# Altium schematic symbol library v-reg.SCHLIB: 65 symbols
Pins are listed as number, name and electrical type; pins without a type are passive.

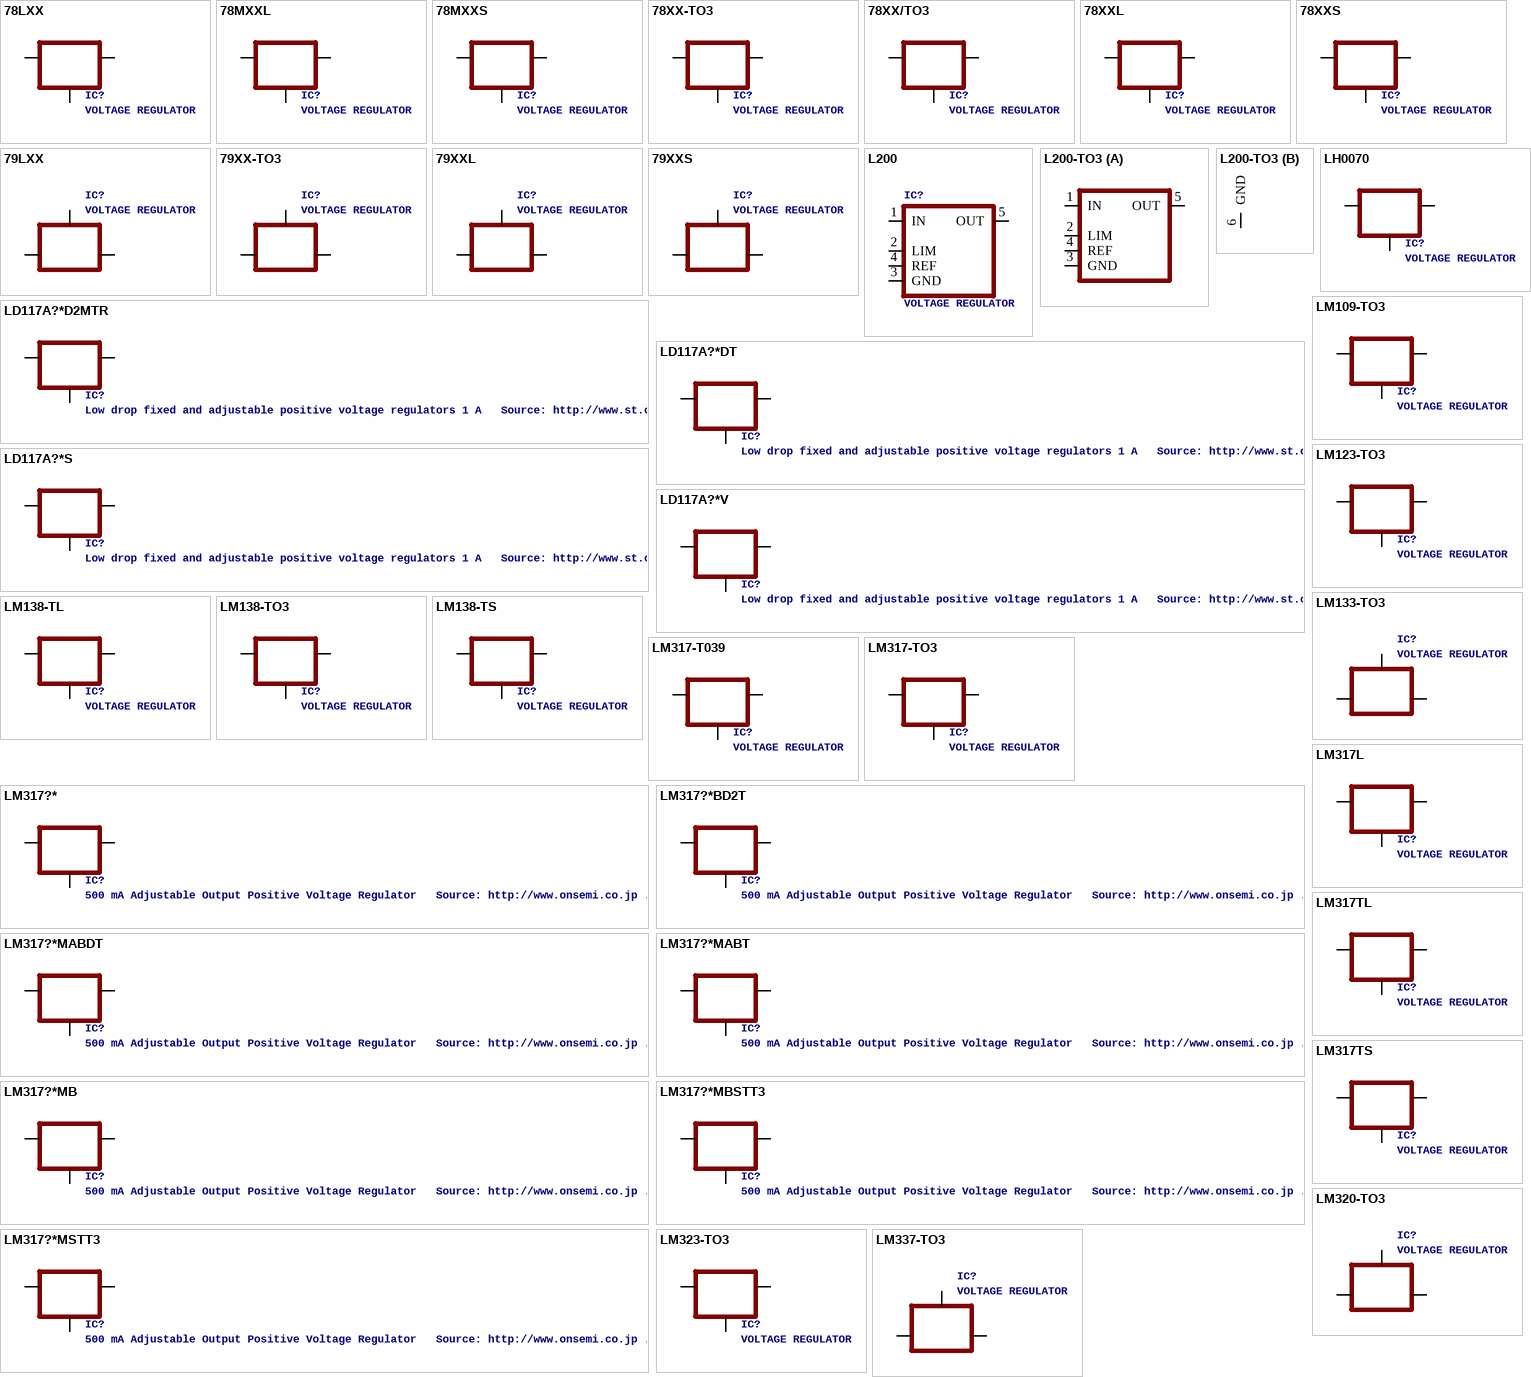
[diagram p0: symbols 78LXX to LM337-TO3]

## 78LXX
designator IC?, comment VOLTAGE REGULATOR
footprint 78LXX
pins: GND, IN, OUT

## 78MXXL
designator IC?, comment VOLTAGE REGULATOR
footprint 78MXXL
pins: GND, IN, OUT

## 78MXXS
designator IC?, comment VOLTAGE REGULATOR
footprint 78MXXS
pins: GND, IN, OUT

## 78XX-TO3
designator IC?, comment VOLTAGE REGULATOR
footprint TO3-78
pins: 1 OUT, 2 IN, 3 GND

## 78XX/TO3
designator IC?, comment VOLTAGE REGULATOR
footprint TO3/78
pins: 1 OUT, 2 IN, 3 GND

## 78XXL
designator IC?, comment VOLTAGE REGULATOR
footprint 78XXL
pins: GND, IN, OUT

## 78XXS
designator IC?, comment VOLTAGE REGULATOR
footprint 78XXS
pins: GND, IN, OUT

## 79LXX
designator IC?, comment VOLTAGE REGULATOR
footprint 79LXX
pins: GND, IN, OUT

## 79XX-TO3
designator IC?, comment VOLTAGE REGULATOR
footprint TO3-79
pins: 1 OUT, 2 GND, 3 IN

## 79XXL
designator IC?, comment VOLTAGE REGULATOR
footprint 79XXL
pins: GND, IN, OUT

## 79XXS
designator IC?, comment VOLTAGE REGULATOR
footprint 79XXS
pins: GND, IN, OUT

## L200
designator IC?, comment VOLTAGE REGULATOR
footprint L200S
pins: 1 IN, 2 LIM, 3 GND, 4 REF, 5 OUT

## L200-TO3
designator IC?, comment VOLTAGE REGULATOR  (value not drawn)
footprint L200TO3
part A pins: 1 IN, 2 LIM, 3 GND, 4 REF, 5 OUT
part B pins: 6 GND (power)

## LD117A?*D2MTR
designator IC?, comment Low drop fixed and adjustable positive voltage regulators 1 A   Source: http://www.st.com/stonline/products/literature/ds/7194/ld1117axx.pdf
footprint D2PACK
pins: 1 ADJ, 2 OUT, 3 IN

## LD117A?*DT
designator IC?, comment Low drop fixed and adjustable positive voltage regulators 1 A   Source: http://www.st.com/stonline/products/literature/ds/7194/ld1117axx.pdf
footprint DPACK
pins: 1 ADJ, 3 IN, 4 OUT

## LD117A?*S
designator IC?, comment Low drop fixed and adjustable positive voltage regulators 1 A   Source: http://www.st.com/stonline/products/literature/ds/7194/ld1117axx.pdf
footprint SOT223
pins: 1 ADJ, 3 IN, 4 OUT

## LD117A?*V
designator IC?, comment Low drop fixed and adjustable positive voltage regulators 1 A   Source: http://www.st.com/stonline/products/literature/ds/7194/ld1117axx.pdf
footprint TO220L1
pins: 1 ADJ, 2 OUT, 3 IN

## LH0070
designator IC?, comment VOLTAGE REGULATOR
footprint LH0070
pins: GND, IN, OUT

## LM109-TO3
designator IC?, comment VOLTAGE REGULATOR
footprint TO3-K02
pins: 1 OUT, 2 IN, 3 GND

## LM123-TO3
designator IC?, comment VOLTAGE REGULATOR
footprint TO3-K02
pins: 1 OUT, 2 IN, 3 GND

## LM133-TO3
designator IC?, comment VOLTAGE REGULATOR
footprint TO3-K02
pins: 1 OUT, 2 ADJ, 3 IN

## LM138-TL
designator IC?, comment VOLTAGE REGULATOR
footprint TO220L1
pins: 1 ADJ, 2 OUT, 3 IN

## LM138-TO3
designator IC?, comment VOLTAGE REGULATOR
footprint TO3-K02
pins: 1 IN, 2 ADJ, 3 OUT

## LM138-TS
designator IC?, comment VOLTAGE REGULATOR
footprint TO220S
pins: 1 ADJ, 2 OUT, 3 IN

## LM317-T039
designator IC?, comment VOLTAGE REGULATOR
footprint TO39-H03
pins: 1 IN, 2 ADJ, 3 OUT

## LM317-TO3
designator IC?, comment VOLTAGE REGULATOR
footprint TO3-K02
pins: 1 IN, 2 ADJ, 3 OUT

## LM317?*
designator IC?, comment 500 mA Adjustable Output Positive Voltage Regulator   Source: http://www.onsemi.co.jp .. LM317M-D.PDF
footprint DPACK
pins: 1 ADJ, 3 IN, 4 OUT

## LM317?*BD2T
designator IC?, comment 500 mA Adjustable Output Positive Voltage Regulator   Source: http://www.onsemi.co.jp .. LM317M-D.PDF
footprint D2PACK
pins: 1 ADJ, 2 OUT, 3 IN

## LM317?*MABDT
designator IC?, comment 500 mA Adjustable Output Positive Voltage Regulator   Source: http://www.onsemi.co.jp .. LM317M-D.PDF
footprint DPACK
pins: 1 ADJ, 3 IN, 4 OUT

## LM317?*MABT
designator IC?, comment 500 mA Adjustable Output Positive Voltage Regulator   Source: http://www.onsemi.co.jp .. LM317M-D.PDF
footprint TO220L1
pins: 1 ADJ, 2 OUT, 3 IN

## LM317?*MB
designator IC?, comment 500 mA Adjustable Output Positive Voltage Regulator   Source: http://www.onsemi.co.jp .. LM317M-D.PDF
footprint TO220L1
pins: 1 ADJ, 2 OUT, 3 IN

## LM317?*MBSTT3
designator IC?, comment 500 mA Adjustable Output Positive Voltage Regulator   Source: http://www.onsemi.co.jp .. LM317M-D.PDF
footprint SOT223
pins: 1 ADJ, 3 IN, 4 OUT

## LM317?*MSTT3
designator IC?, comment 500 mA Adjustable Output Positive Voltage Regulator   Source: http://www.onsemi.co.jp .. LM317M-D.PDF
footprint SOT223
pins: 1 ADJ, 3 IN, 4 OUT

## LM317L
designator IC?, comment VOLTAGE REGULATOR
footprint 317L
pins: 1 ADJ, 2 OUT, 3 IN

## LM317TL
designator IC?, comment VOLTAGE REGULATOR
footprint 317TL
pins: 1 ADJ, 2 OUT, 3 IN

## LM317TS
designator IC?, comment VOLTAGE REGULATOR
footprint 317TS
pins: 1 ADJ, 2 OUT, 3 IN

## LM320-TO3
designator IC?, comment VOLTAGE REGULATOR
footprint TO3-K02
pins: 1 OUT, 2 ADJ, 3 IN

## LM323-TO3
designator IC?, comment VOLTAGE REGULATOR
footprint TO3-K02
pins: 1 OUT, 2 IN, 3 GND

## LM337-TO3
designator IC?, comment VOLTAGE REGULATOR
footprint TO3-K02
pins: 1 OUT, 2 ADJ, 3 IN

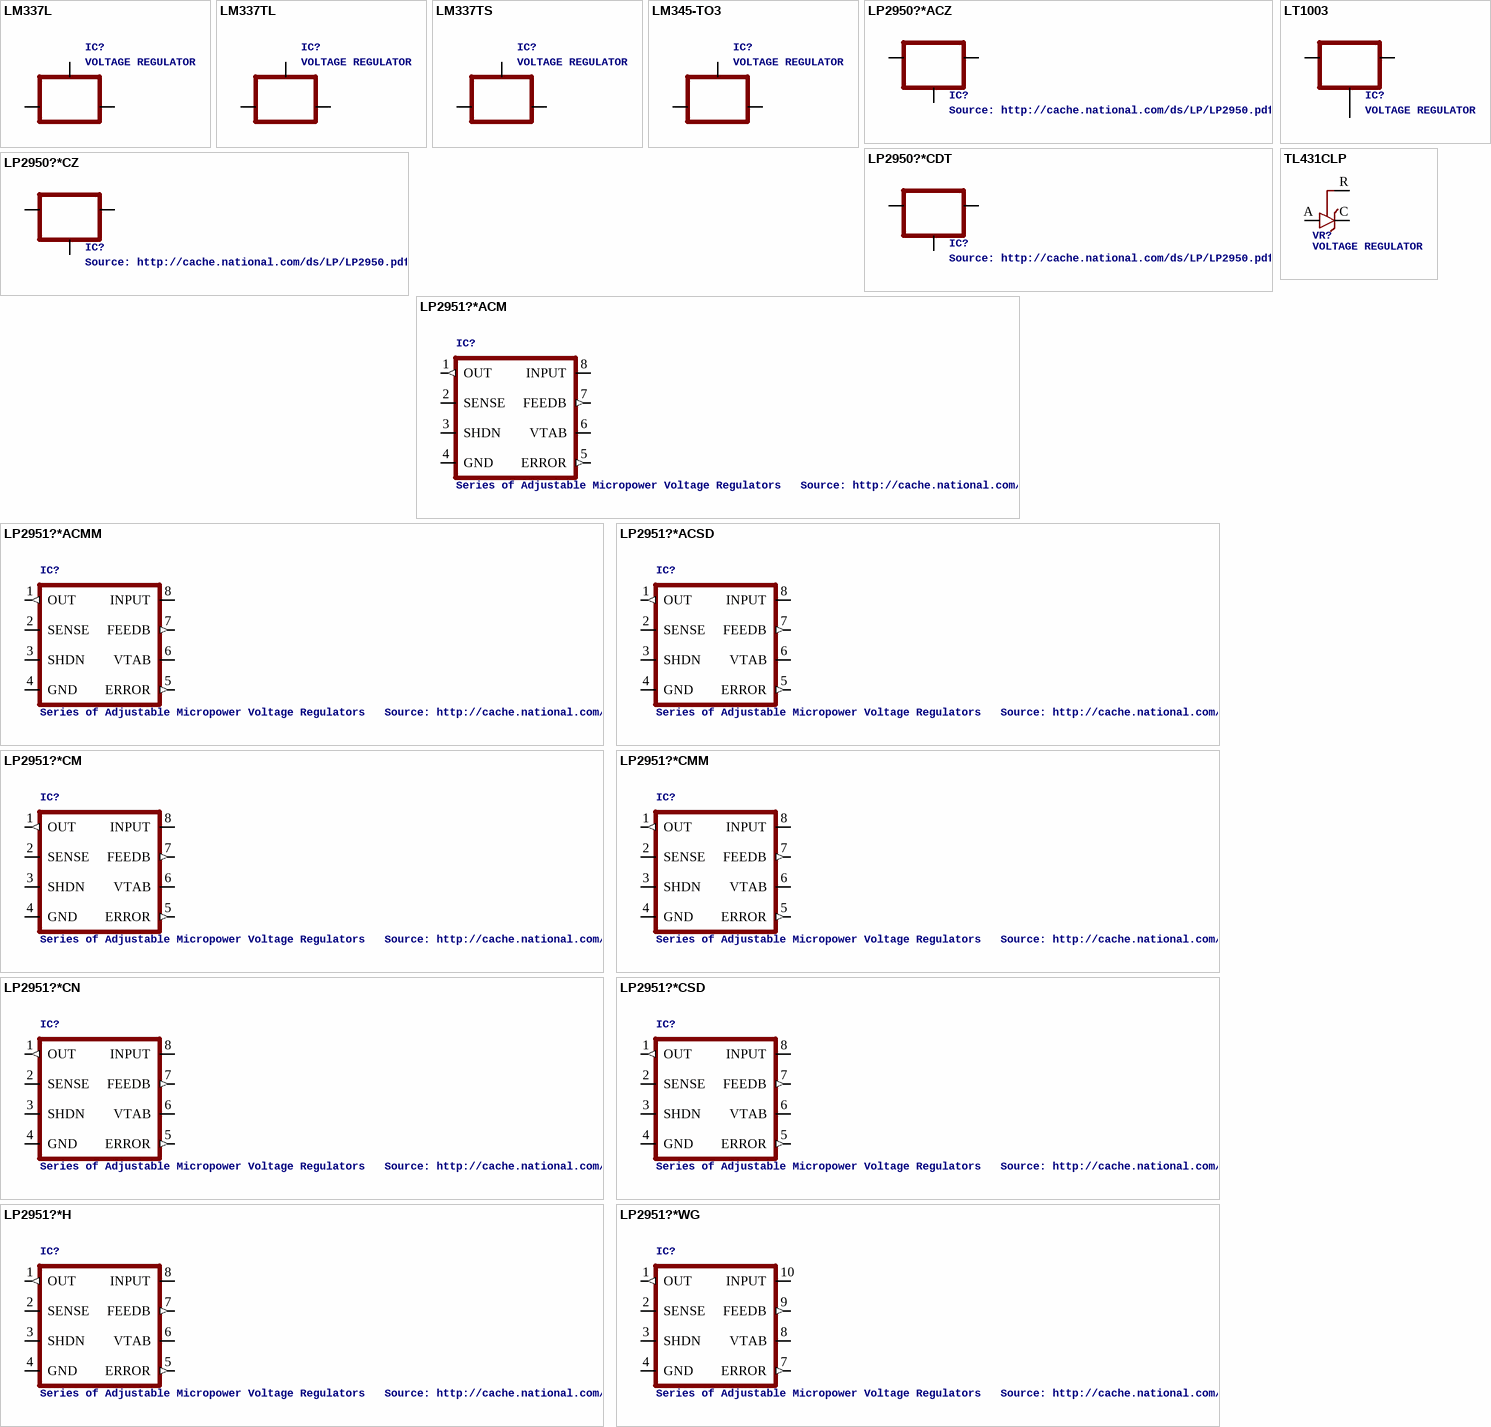
[diagram p1: symbols LM337L to TL431CLP]

## LM337L
designator IC?, comment VOLTAGE REGULATOR
footprint 337L
pins: ADJ, IN, OUT

## LM337TL
designator IC?, comment VOLTAGE REGULATOR
footprint 337TL
pins: 1 ADJ, 2 IN, 3 OUT

## LM337TS
designator IC?, comment VOLTAGE REGULATOR
footprint 337TS
pins: 1 ADJ, 2 IN, 3 OUT

## LM345-TO3
designator IC?, comment VOLTAGE REGULATOR
footprint TO3-K02
pins: 1 OUT, 2 GND, 3 IN

## LP2950?*ACZ
designator IC?, comment Source: http://cache.national.com/ds/LP/LP2950.pdf
footprint TO92
pins: 1 OUT, 2 GND, 3 IN

## LP2950?*CDT
designator IC?, comment Source: http://cache.national.com/ds/LP/LP2950.pdf
footprint DPACK
pins: 1 IN, 3 OUT, 4 GND

## LP2950?*CZ
designator IC?, comment Source: http://cache.national.com/ds/LP/LP2950.pdf
footprint TO92
pins: 1 OUT, 2 GND, 3 IN

## LP2951?*ACM
designator IC?, comment Series of Adjustable Micropower Voltage Regulators   Source: http://cache.national.com/ds/LP/LP2950.pdf
footprint SO-08
pins: 1 OUT (out), 2 SENSE, 3 SHDN, 4 GND (power), 5 ERROR (out), 6 VTAB, 7 FEEDB (out), 8 INPUT

## LP2951?*ACMM
designator IC?, comment Series of Adjustable Micropower Voltage Regulators   Source: http://cache.national.com/ds/LP/LP2950.pdf
footprint MUA08A
pins: 1 OUT (out), 2 SENSE, 3 SHDN, 4 GND (power), 5 ERROR (out), 6 VTAB, 7 FEEDB (out), 8 INPUT

## LP2951?*ACSD
designator IC?, comment Series of Adjustable Micropower Voltage Regulators   Source: http://cache.national.com/ds/LP/LP2950.pdf
footprint LLP8
pins: 1 OUT (out), 2 SENSE, 3 SHDN, 4 GND (power), 5 ERROR (out), 6 VTAB, 7 FEEDB (out), 8 INPUT

## LP2951?*CM
designator IC?, comment Series of Adjustable Micropower Voltage Regulators   Source: http://cache.national.com/ds/LP/LP2950.pdf
footprint SO-08
pins: 1 OUT (out), 2 SENSE, 3 SHDN, 4 GND (power), 5 ERROR (out), 6 VTAB, 7 FEEDB (out), 8 INPUT

## LP2951?*CMM
designator IC?, comment Series of Adjustable Micropower Voltage Regulators   Source: http://cache.national.com/ds/LP/LP2950.pdf
footprint MUA08A
pins: 1 OUT (out), 2 SENSE, 3 SHDN, 4 GND (power), 5 ERROR (out), 6 VTAB, 7 FEEDB (out), 8 INPUT

## LP2951?*CN
designator IC?, comment Series of Adjustable Micropower Voltage Regulators   Source: http://cache.national.com/ds/LP/LP2950.pdf
footprint DIL08
pins: 1 OUT (out), 2 SENSE, 3 SHDN, 4 GND (power), 5 ERROR (out), 6 VTAB, 7 FEEDB (out), 8 INPUT

## LP2951?*CSD
designator IC?, comment Series of Adjustable Micropower Voltage Regulators   Source: http://cache.national.com/ds/LP/LP2950.pdf
footprint LLP8
pins: 1 OUT (out), 2 SENSE, 3 SHDN, 4 GND (power), 5 ERROR (out), 6 VTAB, 7 FEEDB (out), 8 INPUT

## LP2951?*H
designator IC?, comment Series of Adjustable Micropower Voltage Regulators   Source: http://cache.national.com/ds/LP/LP2950.pdf
footprint H08C
pins: 1 OUT (out), 2 SENSE, 3 SHDN, 4 GND (power), 5 ERROR (out), 6 VTAB, 7 FEEDB (out), 8 INPUT

## LP2951?*WG
designator IC?, comment Series of Adjustable Micropower Voltage Regulators   Source: http://cache.national.com/ds/LP/LP2950.pdf
footprint SO10C
pins: 1 OUT (out), 2 SENSE, 3 SHDN, 4 GND (power), 7 ERROR (out), 8 VTAB, 9 FEEDB (out), 10 INPUT

## LT1003
designator IC?, comment VOLTAGE REGULATOR
footprint TO3-78
pins: 1 OUT, 2 IN, 3 GND, 3@ GND1

## TL431CLP
designator VR?, comment VOLTAGE REGULATOR
footprint TO92-CLP
pins: A, C, R

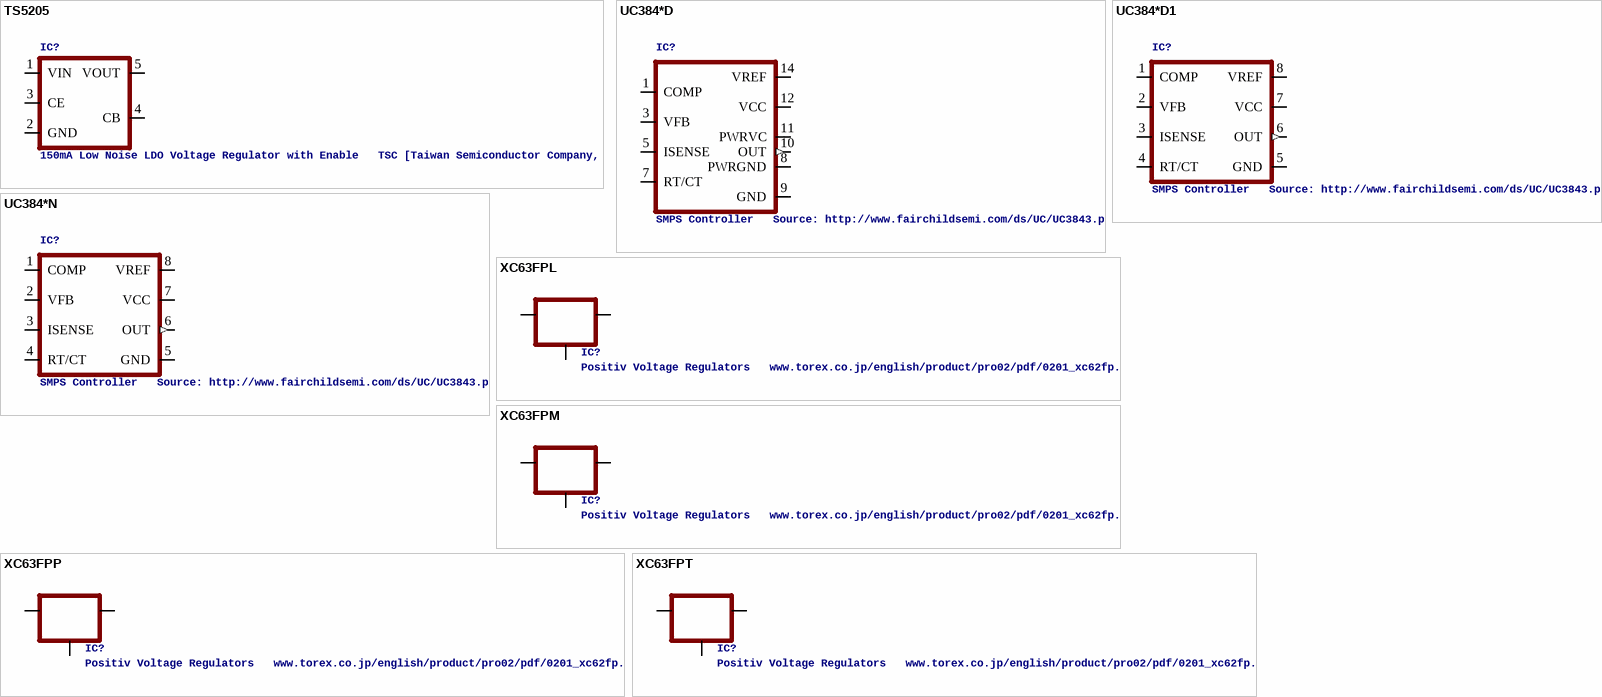
[diagram p2: symbols TS5205 to XC63FPT]

## TS5205
designator IC?, comment 150mA Low Noise LDO Voltage Regulator with Enable   TSC [Taiwan Semiconductor Company, Ltd] Source: http://www.taiwansemi.com .. 5205_0409c.pdf
footprint SOT25
pins: 1 VIN, 2 GND, 3 CE, 4 CB, 5 VOUT

## UC384*D
designator IC?, comment SMPS Controller   Source: http://www.fairchildsemi.com/ds/UC/UC3843.pdf
footprint SO-14
pins: 1 COMP, 3 VFB, 5 ISENSE, 7 RT/CT, 8 PWRGND, 9 GND (power), 10 OUT (out), 11 PWRVC, 12 VCC (power), 14 VREF

## UC384*D1
designator IC?, comment SMPS Controller   Source: http://www.fairchildsemi.com/ds/UC/UC3843.pdf
footprint SO-08
pins: 1 COMP, 2 VFB, 3 ISENSE, 4 RT/CT, 5 GND (power), 6 OUT (out), 7 VCC (power), 8 VREF

## UC384*N
designator IC?, comment SMPS Controller   Source: http://www.fairchildsemi.com/ds/UC/UC3843.pdf
footprint DIL08
pins: 1 COMP, 2 VFB, 3 ISENSE, 4 RT/CT, 5 GND (power), 6 OUT (out), 7 VCC (power), 8 VREF

## XC63FPL
designator IC?, comment Positiv Voltage Regulators   www.torex.co.jp/english/product/pro02/pdf/0201_xc62fp.pdf
footprint TO92
pins: 1 IN, 2 GND, 3 OUT

## XC63FPM
designator IC?, comment Positiv Voltage Regulators   www.torex.co.jp/english/product/pro02/pdf/0201_xc62fp.pdf
footprint SOT23
pins: 1 GND, 2 OUT, 3 IN

## XC63FPP
designator IC?, comment Positiv Voltage Regulators   www.torex.co.jp/english/product/pro02/pdf/0201_xc62fp.pdf
footprint SOT89R
pins: 1 GND, 2 IN, 3 OUT

## XC63FPT
designator IC?, comment Positiv Voltage Regulators   www.torex.co.jp/english/product/pro02/pdf/0201_xc62fp.pdf
footprint TO92
pins: 1 GND, 2 IN, 3 OUT